# Altium footprint library IND_SMT.PcbLib: 13 footprints
Each footprint in its own frame and in the unit in brackets; x right, y up, seen from the top. Pads: shape width x height; smd on the part's side, far side on the other; paste and mask are expansions set on the pad; w line width, h text height; cw(c..) or ccw(c..) is an arc to the next point about the centre after c.
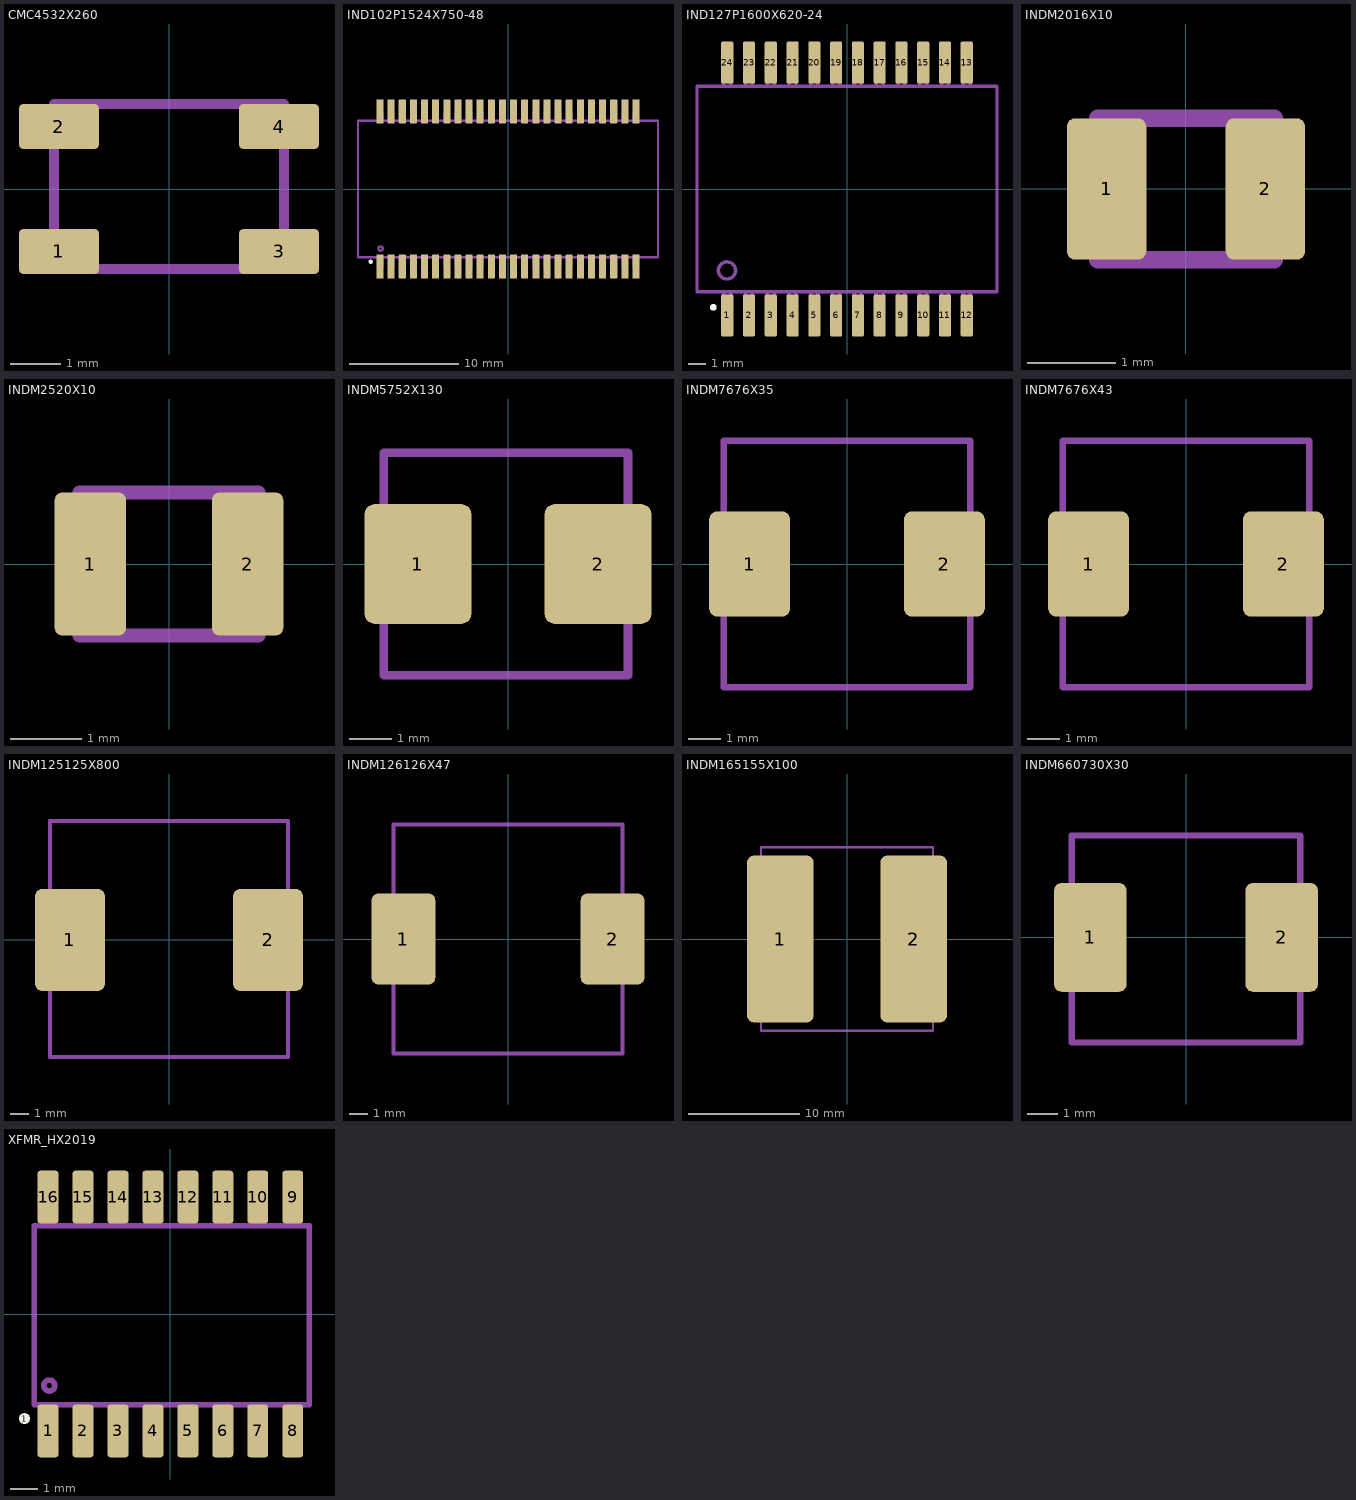
[diagram p0: the footprints below, top view; thin cyan lines are the x and y axes]

## CMC4532X260 [mm]
height 0.4
pads (4):
  rrect20% 1.6x0.9 smd: 1(-2.2,-1.25) 2(-2.2,1.25) 3(2.2,-1.25) 4(2.2,1.25)
Top Assembly:
  lines w0.2: -2.3,-1.6 2.3,-1.6 2.3,1.7 -2.3,1.7 -2.3,-1.6
3D body "CMC4532X260.stp": height 2.61, standoff 0, extent -2.26,-1.61 2.26,1.61

## IND102P1524X750-48 [mm]
height 1.55
pads (49):
  round 0.4 on Top Overlay: 1(-12.585,-6.662)
  rrect25% 0.65x2.225 smd: 1(-11.73,-7.113) 2(-10.71,-7.113) 3(-9.69,-7.113) 4(-8.67,-7.113) 5(-7.65,-7.113) 6(-6.63,-7.113) 7(-5.61,-7.113) 8(-4.59,-7.113) 9(-3.57,-7.113) 10(-2.55,-7.113) 11(-1.53,-7.113) 12(-0.51,-7.113) 13(0.51,-7.113) 14(1.53,-7.113) 15(2.55,-7.113) 16(3.57,-7.113) 17(4.59,-7.113) 18(5.61,-7.113) 19(6.63,-7.113) 20(7.65,-7.113) 21(8.67,-7.113) 22(9.69,-7.113) 23(10.71,-7.113) 24(11.73,-7.113) 25(11.73,7.113) 26(10.71,7.113) 27(9.69,7.113) 28(8.67,7.113) 29(7.65,7.113) 30(6.63,7.113) 31(5.61,7.113) 32(4.59,7.113) 33(3.57,7.113) 34(2.55,7.113) 35(1.53,7.113) 36(0.51,7.113) 37(-0.51,7.113) 38(-1.53,7.113) 39(-2.55,7.113) 40(-3.57,7.113) 41(-4.59,7.113) 42(-5.61,7.113) 43(-6.63,7.113) 44(-7.65,7.113) 45(-8.67,7.113) 46(-9.69,7.113) 47(-10.71,7.113) 48(-11.73,7.113)
Top Assembly:
  circle w0.2: c-11.685,-5.462 r0.2
  lines w0.2: -11.93,-6.25 -11.93,-7.113 -11.53,-7.113 -11.53,-6.25 ; -11.93,6.25 -11.93,7.113 -11.53,7.113 -11.53,6.25 ; -10.91,-6.25 -10.91,-7.113 -10.51,-7.113 -10.51,-6.25 ; -10.91,6.25 -10.91,7.113 -10.51,7.113 -10.51,6.25 ; -9.89,-6.25 -9.89,-7.113 -9.49,-7.113 -9.49,-6.25 ; -9.89,6.25 -9.89,7.113 -9.49,7.113 -9.49,6.25 ; -8.87,-6.25 -8.87,-7.113 -8.47,-7.113 -8.47,-6.25 ; -8.87,6.25 -8.87,7.113 -8.47,7.113 -8.47,6.25 ; -7.85,-6.25 -7.85,-7.113 -7.45,-7.113 -7.45,-6.25 ; -7.85,6.25 -7.85,7.113 -7.45,7.113 -7.45,6.25 ; -6.83,-6.25 -6.83,-7.113 -6.43,-7.113 -6.43,-6.25 ; -6.83,6.25 -6.83,7.113 -6.43,7.113 -6.43,6.25 ; -5.81,-6.25 -5.81,-7.113 -5.41,-7.113 -5.41,-6.25 ; -5.81,6.25 -5.81,7.113 -5.41,7.113 -5.41,6.25 ; -4.79,-6.25 -4.79,-7.113 -4.39,-7.113 -4.39,-6.25 ; -4.79,6.25 -4.79,7.113 -4.39,7.113 -4.39,6.25 ; -3.77,-6.25 -3.77,-7.113 -3.37,-7.113 -3.37,-6.25 ; -3.77,6.25 -3.77,7.113 -3.37,7.113 -3.37,6.25 ; -2.75,-6.25 -2.75,-7.113 -2.35,-7.113 -2.35,-6.25 ; -2.75,6.25 -2.75,7.113 -2.35,7.113 -2.35,6.25 ; -1.73,-6.25 -1.73,-7.113 -1.33,-7.113 -1.33,-6.25 ; -1.73,6.25 -1.73,7.113 -1.33,7.113 -1.33,6.25 ; -0.71,-6.25 -0.71,-7.113 -0.31,-7.113 -0.31,-6.25 ; -0.71,6.25 -0.71,7.113 -0.31,7.113 -0.31,6.25 ; 0.31,-6.25 0.31,-7.113 0.71,-7.113 0.71,-6.25 ; 0.31,6.25 0.31,7.113 0.71,7.113 0.71,6.25 ; 1.33,-6.25 1.33,-7.113 1.73,-7.113 1.73,-6.25 ; 1.33,6.25 1.33,7.113 1.73,7.113 1.73,6.25 ; 2.35,-6.25 2.35,-7.113 2.75,-7.113 2.75,-6.25 ; 2.35,6.25 2.35,7.113 2.75,7.113 2.75,6.25 ; 3.37,-6.25 3.37,-7.113 3.77,-7.113 3.77,-6.25 ; 3.37,6.25 3.37,7.113 3.77,7.113 3.77,6.25 ; 4.39,-6.25 4.39,-7.113 4.79,-7.113 4.79,-6.25 ; 4.39,6.25 4.39,7.113 4.79,7.113 4.79,6.25 ; 5.41,-6.25 5.41,-7.113 5.81,-7.113 5.81,-6.25 ; 5.41,6.25 5.41,7.113 5.81,7.113 5.81,6.25 ; 6.43,-6.25 6.43,-7.113 6.83,-7.113 6.83,-6.25 ; 6.43,6.25 6.43,7.113 6.83,7.113 6.83,6.25 ; 7.45,-6.25 7.45,-7.113 7.85,-7.113 7.85,-6.25 ; 7.45,6.25 7.45,7.113 7.85,7.113 7.85,6.25 ; 8.47,-6.25 8.47,-7.113 8.87,-7.113 8.87,-6.25 ; 8.47,6.25 8.47,7.113 8.87,7.113 8.87,6.25 ; 9.49,-6.25 9.49,-7.113 9.89,-7.113 9.89,-6.25 ; 9.49,6.25 9.49,7.113 9.89,7.113 9.89,6.25 ; 10.51,-6.25 10.51,-7.113 10.91,-7.113 10.91,-6.25 ; 10.51,6.25 10.51,7.113 10.91,7.113 10.91,6.25 ; 11.53,-6.25 11.53,-7.113 11.93,-7.113 11.93,-6.25 ; 11.53,6.25 11.53,7.113 11.93,7.113 11.93,6.25 ; -13.75,-6.25 -13.75,6.25 13.75,6.25 13.75,-6.25 -13.75,-6.25
3D body "IND102P1524X750-48.stp": height 7.5, standoff 0, extent -13.9,-7.62 13.9,7.62

## IND127P1600X620-24 [mm]
height 1.55
pads (25):
  round 0.4 on Top Overlay: 1(-7.8,-6.9)
  rrect25% 0.71x2.45 smd: 1(-6.985,-7.375) 2(-5.715,-7.375) 3(-4.445,-7.375) 4(-3.175,-7.375) 5(-1.905,-7.375) 6(-0.635,-7.375) 7(0.635,-7.375) 8(1.905,-7.375) 9(3.175,-7.375) 10(4.445,-7.375) 11(5.715,-7.375) 12(6.985,-7.375) 13(6.985,7.375) 14(5.715,7.375) 15(4.445,7.375) 16(3.175,7.375) 17(1.905,7.375) 18(0.635,7.375) 19(-0.635,7.375) 20(-1.905,7.375) 21(-3.175,7.375) 22(-4.445,7.375) 23(-5.715,7.375) 24(-6.985,7.375)
Top Assembly:
  circle w0.2: c-7,-4.75 r0.5
  lines w0.2: -7.185,-6 -7.185,-8 -6.785,-8 -6.785,-6 ; -7.185,6 -7.185,8 -6.785,8 -6.785,6 ; -5.915,-6 -5.915,-8 -5.515,-8 -5.515,-6 ; -5.915,6 -5.915,8 -5.515,8 -5.515,6 ; -4.645,-6 -4.645,-8 -4.245,-8 -4.245,-6 ; -4.645,6 -4.645,8 -4.245,8 -4.245,6 ; -3.375,-6 -3.375,-8 -2.975,-8 -2.975,-6 ; -3.375,6 -3.375,8 -2.975,8 -2.975,6 ; -2.105,-6 -2.105,-8 -1.705,-8 -1.705,-6 ; -2.105,6 -2.105,8 -1.705,8 -1.705,6 ; -0.835,-6 -0.835,-8 -0.435,-8 -0.435,-6 ; -0.835,6 -0.835,8 -0.435,8 -0.435,6 ; 0.435,-6 0.435,-8 0.835,-8 0.835,-6 ; 0.435,6 0.435,8 0.835,8 0.835,6 ; 1.705,-6 1.705,-8 2.105,-8 2.105,-6 ; 1.705,6 1.705,8 2.105,8 2.105,6 ; 2.975,-6 2.975,-8 3.375,-8 3.375,-6 ; 2.975,6 2.975,8 3.375,8 3.375,6 ; 4.245,-6 4.245,-8 4.645,-8 4.645,-6 ; 4.245,6 4.245,8 4.645,8 4.645,6 ; 5.515,-6 5.515,-8 5.915,-8 5.915,-6 ; 5.515,6 5.515,8 5.915,8 5.915,6 ; 6.785,-6 6.785,-8 7.185,-8 7.185,-6 ; 6.785,6 6.785,8 7.185,8 7.185,6 ; -8.75,-6 -8.75,6 8.75,6 8.75,-6 -8.75,-6
3D body "IND127P1600X620-24.stp": height 6.2, standoff 0, extent -8.75,-8 8.75,8

## INDM2016X10 [mm]
height 0.4
pads (2):
  rrect20% 0.9x1.6 smd: 1(-0.9,0) 2(0.9,0)
Top Assembly:
  lines w0.2: -1,-0.8 -1,0.8 1,0.8 1,-0.8 -1,-0.8
3D body: height 1, standoff 0, extent -0.975,-0.8 0.975,0.8
3D body: height 0.8, standoff 0, extent -1,-0.7 -0.5,0.7
3D body: height 0.8, standoff 0, extent 0.5,-0.7 1,0.7

## INDM2520X10 [mm]
height 0.4
pads (2):
  rrect20% 1x2 smd: 1(-1.1,0) 2(1.1,0)
Top Assembly:
  lines w0.2: -1.25,-1 -1.25,1 1.25,1 1.25,-1 -1.25,-1
3D body: height 1, standoff 0, extent -1.225,-1 1.225,1
3D body: height 0.8, standoff 0, extent -1.25,-0.8 -0.65,0.8
3D body: height 0.8, standoff 0, extent 0.657,-0.8 1.257,0.8

## INDM5752X130 [mm]
height 0.4
pads (2):
  rrect20% 2.5x2.8 smd: 1(-2.1,0) 2(2.1,0)
Top Assembly:
  lines w0.2: -2.9,-2.6 2.8,-2.6 2.8,2.6 -2.9,2.6 -2.9,-2.6
3D body "INDM5752X130.stp": height 1.3, standoff 0, extent -2.85,-2.6 2.85,2.6

## INDM7676X35 [mm]
height 0.4
pads (2):
  rrect20% 2.5x3.25 smd: 1(-3,0) 2(3,0)
Top Assembly:
  lines w0.2: -3.8,-3.8 -3.8,3.8 3.8,3.8 3.8,-3.8 -3.8,-3.8
3D body "INDM7676X35.stp": height 3.5, standoff 0, extent -3.8,-3.8 3.8,3.8

## INDM7676X43 [mm]
height 0.4
pads (2):
  rrect20% 2.5x3.25 smd: 1(-3,0) 2(3,0)
Top Assembly:
  lines w0.2: -3.8,-3.8 -3.8,3.8 3.8,3.8 3.8,-3.8 -3.8,-3.8
3D body "INDM7676X43.stp": height 4.3, standoff 0, extent -3.8,-3.8 3.8,3.8

## INDM125125X800 [mm]
height 0.4
pads (2):
  rrect20% 3.7x5.4 smd: 1(-5.25,0) 2(5.25,0)
Top Assembly:
  lines w0.2: -6.3,-6.2 6.3,-6.2 6.3,6.3 -6.3,6.3 -6.3,-6.2
3D body "INDM125125X800.stp": height 8, standoff 0, extent -6.25,-6.215 6.25,6.285

## INDM126126X47 [mm]
height 0.4
pads (2):
  rrect20% 3.5x5 smd: 1(-5.75,0) 2(5.75,0)
Top Assembly:
  lines w0.2: -6.3,-6.3 6.3,-6.3 6.3,6.3 -6.3,6.3 -6.3,-6.3
3D body "INDM126126X47.stp": height 4.7, standoff 0, extent -6.75,-6.3 6.75,6.3

## INDM165155X100 [mm]
height 0.4
pads (2):
  rrect20% 6x15 smd: 1(-6,0) 2(6,0)
Top Assembly:
  lines w0.2: -7.75,-8.25 7.75,-8.25 7.75,8.25 -7.75,8.25 -7.75,-8.25
3D body "INDM165155X100.stp": height 9.7, standoff 0, extent -7.75,-8.215 7.75,8.285

## INDM660730X30 [mm]
height 0.4
pads (2):
  rrect20% 2.35x3.52 smd: 1(-3.1,0) 2(3.1,0)
Top Assembly:
  lines w0.2: -3.7,-3.4 3.7,-3.4 3.7,3.3 -3.7,3.3 -3.7,-3.4
3D body: height 0.8, standoff 0, extent 3,-1.45 3.7,1.45
3D body: height 0.8, standoff 0, extent -3.7,-1.45 -3,1.45
3D body: height 3, standoff 0, extent -3.675,-3.4 3.675,3.3

## XFMR_HX2019 [mm]
height 1.55
pads (17):
  round 0.4 on Top Overlay: 1(-5.3,-3.8)
  rrect25% 0.76x1.91 smd: 1(-4.445,-4.25) 2(-3.175,-4.25) 3(-1.905,-4.25) 4(-0.635,-4.25) 5(0.635,-4.25) 6(1.905,-4.25) 7(3.175,-4.25) 8(4.445,-4.25) 9(4.445,4.25) 10(3.175,4.25) 11(1.905,4.25) 12(0.635,4.25) 13(-0.635,4.25) 14(-1.905,4.25) 15(-3.175,4.25) 16(-4.445,4.25)
Top Assembly:
  circle w0.2: c-4.4,-2.6 r0.2
  lines w0.2: -4.645,-3.3 -4.645,-4.25 -4.245,-4.25 -4.245,-3.3 ; -4.645,3.2 -4.645,4.15 -4.245,4.15 -4.245,3.2 ; -3.375,-3.3 -3.375,-4.25 -2.975,-4.25 -2.975,-3.3 ; -3.362,3.222 -3.362,4.172 -2.962,4.172 -2.962,3.222 ; -2.105,-3.3 -2.105,-4.25 -1.705,-4.25 -1.705,-3.3 ; -2.105,3.2 -2.105,4.15 -1.705,4.15 -1.705,3.2 ; -0.835,-3.3 -0.835,-4.25 -0.435,-4.25 -0.435,-3.3 ; -0.835,3.2 -0.835,4.15 -0.435,4.15 -0.435,3.2 ; 0.435,-3.3 0.435,-4.25 0.835,-4.25 0.835,-3.3 ; 0.435,3.2 0.435,4.15 0.835,4.15 0.835,3.2 ; 1.705,-3.3 1.705,-4.25 2.105,-4.25 2.105,-3.3 ; 1.705,3.2 1.705,4.15 2.105,4.15 2.105,3.2 ; 2.975,-3.3 2.975,-4.25 3.375,-4.25 3.375,-3.3 ; 2.975,3.2 2.975,4.15 3.375,4.15 3.375,3.2 ; 4.245,-3.3 4.245,-4.25 4.645,-4.25 4.645,-3.3 ; 4.245,3.2 4.245,4.15 4.645,4.15 4.645,3.2 ; -4.94,-3.3 -4.94,3.2 5.04,3.2 5.04,-3.3 -4.94,-3.3
3D body "XFMR_HX2019.stp": height 5.97, standoff 0, extent -6.345,-4.825 6.345,4.825